# EAGLE library part SWD (library everykey)
SWD adapter
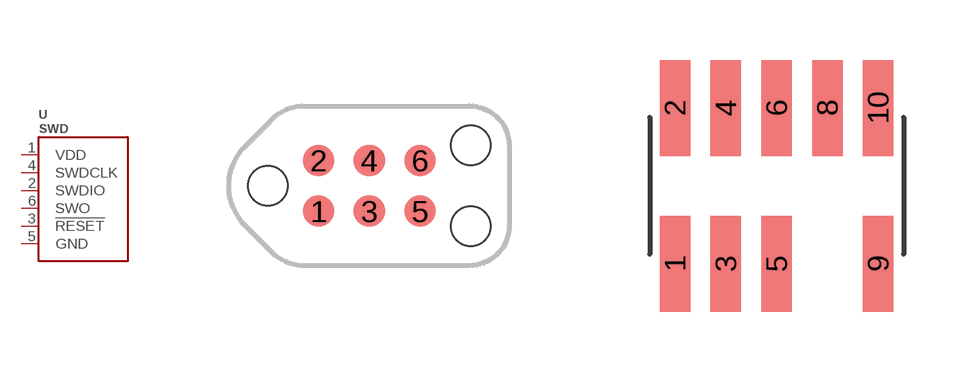
[diagram p93: symbol with the pads of TC2030-IDC-NL; footprints TC2030-IDC-NL, CORTEXDEBUG-SMD]

Designator prefix -

## SWD-TAGCONNECT-NOLEGS  [TC2030-IDC-NL]
1  VDD
2  SWDIO
3  !RESET
4  SWDCLK
5  GND
6  SWO

## SWD-SMD  [CORTEXDEBUG-SMD]
1  VDD
2  SWDIO
3  GND
4  SWDCLK
5  GND
6  SWO
9  GND
10  !RESET

## Footprint TC2030-IDC-NL (pad centres in mm)
6-pad footprint for TAG-CONNECT adapters, "no legs" version
smd 0.787 x 0.787: 1 -1.27,-0.635; 2 -1.27,0.635; 3 0,-0.635; 4 0,0.635; 5 1.27,-0.635; 6 1.27,0.635
hole 0.991 at -2.54,0
hole 0.991 at 2.54,1.016
hole 0.991 at 2.54,-1.016

## Footprint CORTEXDEBUG-SMD (pad centres in mm)
Cortex debug header (2x5 SMT, 1.27mm pitch, pin 7 missing)
smd 0.762 x 2.4: 1 -2.54,-1.95; 2 -2.54,1.95; 3 -1.27,-1.95; 4 -1.27,1.95; 5 0,-1.95; 6 0,1.95; 8 1.27,1.95; 9 2.54,-1.95; 10 2.54,1.95